# Altium schematic symbol library ADG849YKSZ-500RL7.SchLib: 1 symbol
Pins are listed as number, name and electrical type; pins without a type are passive.

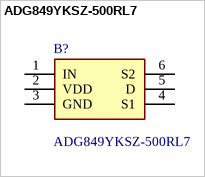
[diagram p0: symbol ADG849YKSZ-500RL7]

## ADG849YKSZ-500RL7
designator B?
SPDT/2:1 Mux; Manufacturer_Name: Analog Devices; Geometry.Height: 1.1mm; Mouser Part Number: 584-ADG849YKSZ-500R7; Mouser Price/Stock: https://www.mouser.co.uk/ProductDetail/Analog-Devices/ADG849YKSZ-500RL7?qs=BpaRKvA4VqH8qBqwWySUcg%3D%3D; Manufacturer_Part_Number: ADG849YKSZ-500RL7; Datasheet Link: http://componentsearchengine.com/Datasheets/1/ADG849YKSZ-500RL7.pdf
footprint SOT65P210X110-6N
pins: 1 IN, 2 VDD, 3 GND, 4 S1, 5 D, 6 S2